# Altium footprint library WL-TDRW.PcbLib: 2 footprints
Each footprint in its own frame and in the unit in brackets; x right, y up, seen from the top. Pads: shape width x height; smd on the part's side, far side on the other; paste and mask are expansions set on the pad; w line width, h text height; cw(c..) or ccw(c..) is an arc to the next point about the centre after c.
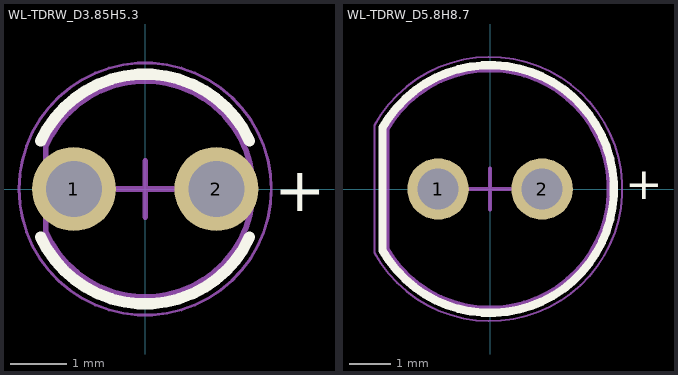
[diagram p0: the footprints below, top view; thin cyan lines are the x and y axes]

## WL-TDRW_D3.85H5.3 [mm] "THT Phototdiode Round Waterclear, body diameter 3.85mm"
height 5.3
pads (2):
  round 1.5 hole 1: 1(-1.27,0) 2(1.27,0)
Top Overlay:
  lines w0.2: -1.863,-0.856 ccw(c0,0) 1.863,-0.856 ; -1.863,0.856 cw(c0,0) 1.863,0.856
  text "+" at 2.3,-0.4 h0.8
Top Assembly:
  lines w0.1: -1.775,-0.746 -1.775,0.746 ; -1.775,-0.746 ccw(c0,0) -1.775,0.746
Top Designator:
  text ".Designator" at -3.647,-0.357 h1
Top Courtyard:
  circle w0.05: c0,0 r2.25
Top Component Center:
  lines w0.1: -0.5,0 0.5,0 ; 0,-0.5 0,0.5
3D body "1540031EA4590.stp": height 5.3, standoff -27.4, extent -1.75,-1.914 1.909,1.914

## WL-TDRW_D5.8H8.7 [mm] "THT Phototdiode Round Waterclear, body diameter 5.8mm"
height 8.7
pads (2):
  round 1.5 hole 1: 1(-1.27,0) 2(1.27,0)
Top Overlay:
  lines w0.2: -2.625,-1.503 ccw(c0,0) -2.625,1.503 -2.625,-1.503
  text "+" at 3.3,-0.25 h0.8
Top Assembly:
  lines w0.1: -2.5,-1.469 ccw(c0,0) -2.5,1.469 -2.5,-1.469
Top Designator:
  text ".Designator" at -3.647,-0.357 h1
Top Courtyard:
  lines w0.05: -2.825,-1.555 ccw(c0,0) -2.825,1.555 ; -2.825,-1.555 -2.825,1.555
Top Component Center:
  lines w0.1: -0.5,0 0.5,0 ; 0,-0.5 0,0.5
3D body "1540051EA3590.stp": height 9.2, standoff -25.9, extent -2.5,-2.9 2.9,2.899